# EAGLE library part CON-YAWPI-OUT (library various)
Special connector for YAWPI project, board output
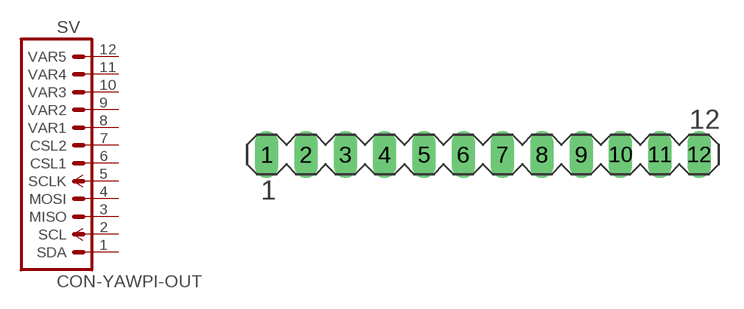
[diagram p2: symbol with the pads of MA12-1; footprint MA12-1]

Designator prefix SV

## CON-YAWPI-OUT  [MA12-1]
1  SDA
2  SCL  in
3  MISO  out
4  MOSI  in
5  SCLK  in
6  CSL1  in
7  CSL2  in
8  VAR1
9  VAR2
10  VAR3
11  VAR4
12  VAR5

## Footprint MA12-1 (pad centres in mm)
PIN HEADER
drill 1.016 long: 1 -13.97,0; 2 -11.43,0; 3 -8.89,0; 4 -6.35,0; 5 -3.81,0; 6 -1.27,0; 7 1.27,0; 8 3.81,0; 9 6.35,0; 10 8.89,0; 11 11.43,0; 12 13.97,0